# Altium schematic symbol library IC.SchLib: 9 symbols
Pins are listed as number, name and electrical type; pins without a type are passive.

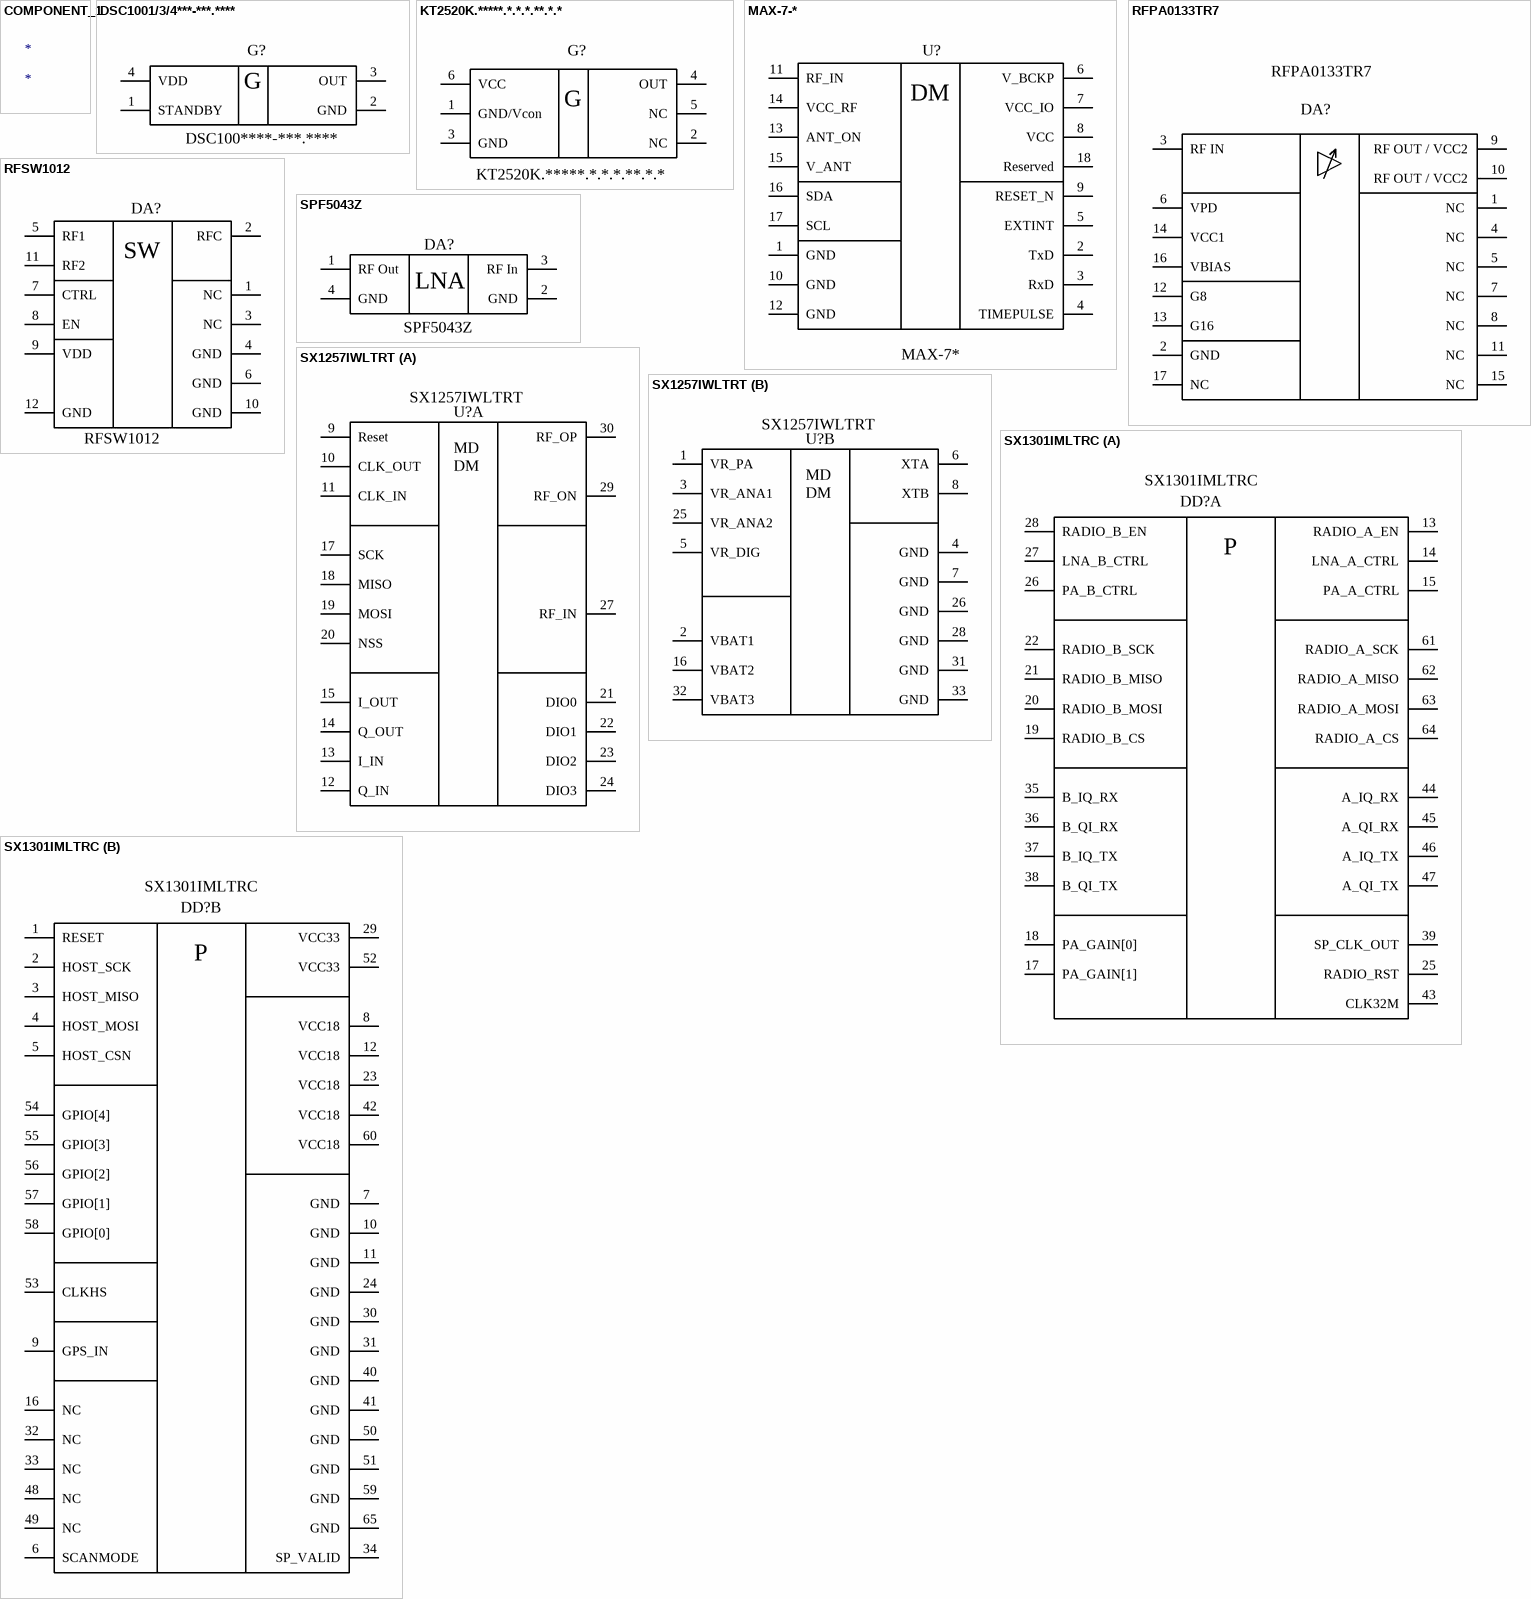
[diagram p0: symbols COMPONENT_1 to SX1301IMLTRC]

## COMPONENT_1
designator *

## DSC1001/3/4***-***.****
designator G?, comment DSC100****-***.****
1.8V-3.3V Low-Power Precision CMOS Oscillators 1-150 MHz Family; Manufacturer: Microchip; Designer: Лазба; 3D_Body: +; ComponentLink1Description: Техническое описание; ComponentLink1URL: Q:\Libs\Descriptions_PDF\DSC1001-3-4\DSC1001-3-4.pdf; Category: IC; Subcategory: Crystal Oscillator; Status: Check; Package: *; ComponentLink2Description: Техническое описание 2; ComponentLink2URL: Q:\Libs\Descriptions_PDF\DSC1001-3-4\DSC1001.pdf; PartNumber: DSC100****-***.****
footprint DSC1001CI2 (4-Leads, Body 2,50x3,20mm, Pitch 2,10mm, IPC Medium Density)
pins: 1 STANDBY, 2 GND, 3 OUT, 4 VDD
text: G

## KT2520K.*****.*.*.*.**.*.*
designator G?
Temperature Compensated Crystal Oscillators (TCXO, VCTCXO) Surface Mount Type; Manufacturer: Kyocera; Designer: Лазба; 3D_Body: +; Standard Freq, MHz: 19.2, 26, 32, 38.4, 48, 52; ComponentLink1Description: Техническое описание; ComponentLink1URL: Q:\Libs\Descriptions_PDF\kt2520_e.pdf; Category: IC; Subcategory: Crystal Oscillator; Status: Check; Package: Miniature SMD type (2.5×2.0×0.8mm); PartNumber: KT2520K.*****.*.*.*.**.*.*
footprint KT2520K (6-Pins, Body 2,50x2,50mmx0,80mm)
pins: 1 GND/Vcon, 2 NC, 3 GND, 4 OUT, 5 NC, 6 VCC
text: G

## MAX-7-*
designator U?, comment MAX-7*
GPS/GNSS Module; Manufacturer: u-blox; Designer: Лазба; 3D_Body: +; ComponentLink1Description: Техническое описание; ComponentLink1URL: Q:\Libs\Descriptions_PDF\MAX_7_DataSheet__UBX_13004068_-2010070.pdf; Category: IC; Subcategory: Transciever; Status: Check; PartNumber: MAX-7*
footprint MAX-7-Q0 (Chip Array, Flat, 18-Leads, Pitch 1,10mm,  Body 10,35x9,70mm,  IPC Medium Density)
pins: 1 GND "Ground", 2 TxD "Serial Port", 3 RxD "Serial Port", 4 TIMEPULSE "Time pulse (1PPS)", 5 EXTINT "External Interrupt Pin", 6 V_BCKP "Backup voltage supply", 7 VCC_IO "IO Supply Voltage", 8 VCC "Supply voltage", 9 RESET_N, 10 GND "Ground", 11 RF_IN "GNSS signal input", 12 GND "Ground", 13 ANT_ON "Antenna control", 14 VCC_RF "Output Voltage RF section", 15 V_ANT "Active Antenna Supply Voltage", 16 SDA "DDC Data", 17 SCL "DDC Clock", 18 Reserved
text: DM

## RFPA0133TR7
designator DA?
380 to 960 MHz, 3 to 5V programmable gain high efficiency power amplifier; Manufacturer: RFD, Qorvo; Designer: Лазба; 3D_Body: +; ComponentLink1Description: Техническое описание; ComponentLink1URL: Q:\Libs\Descriptions_PDF\RFPA0133_data_sheet.pdf; Category: IC; Subcategory: VGA; Status: Check; Package: 16-Lead QFN; PartNumber: RFPA0133TR7
footprint QFN50P300X300X90_HS-17N (QFN, 16-Leads, Body 3,00x3,00mm, Pitch 0,50mm, Thermal Pad 1,73x1,73mm, IPC Medium Density)
footprint RFPA0133TR7 (QFN, 16-Leads, Body 3,00x3,00mm, Pitch 0,50mm, Thermal Pad 1,70x1,70mm, IPC Medium Density)
pins: 1 NC , 2 GND, 3 RF IN, 4 NC , 5 NC , 6 VPD, 7 NC , 8 NC , 9 RF OUT / VCC2, 10 RF OUT / VCC2, 11 NC , 12 G8, 13 G16, 14 VCC1, 15 NC , 16 VBIAS, 17 NC 

## RFSW1012
designator DA?
Broadband SPDT Switch 0.005-6 GHz; Manufacturer: Qorvo; Designer: Лазба; 3D_Body: +; ComponentLink1Description: Техническое описание; ComponentLink1URL: Q:\Libs\Descriptions_PDF\RFSW1012 Data Sheet.pdf; Category: IC; Subcategory: Switch; Status: Check; Package: *; PartNumber: RFSW1012
footprint PQFN50P200X200X60_HS-13N (PQFN, 12-Leads, Body 2.00x2.00mm, Pitch 0.50mm, Thermal Pad 1.00x1.00mm, IPC Medium Density)
pins: 1 NC "No internal connection but recommend to ground on board for proper mounting", 2 RFC "Single ended Common Port", 3 NC "No internal connection but recommend to ground on board for proper mounting", 4 GND "Internally connected and must be grounded on board.", 5 RF1 "Single Ended RF port", 6 GND "Internally connected and must be grounded on board.", 7 CTRL "Switch logic control input", 8 EN "Shutdown logic control input", 9 VDD, 10 GND "Internally connected and must be grounded on board.", 11 RF2 "Single Ended RF port", 12 GND "Internally connected and must be grounded on board."
text: SW

## SPF5043Z
designator DA?
50 MHz to 4000 MHz Low-Noise Amplifier; Manufacturer: Qorvo; Designer: Лазба; 3D_Body: +; ComponentLink1Description: Техническое описание; ComponentLink1URL: Q:\Libs\Descriptions_PDF\SPF5043Z Data Sheet.pdf; Category: IC; Subcategory: LNA; Status: Check; Package: SOT343; PartNumber: SPF5043Z
footprint SOT130P210X105-4N
pins: 1 RF Out "RF output and Drain DC input. Internally matched to 50Ω. External DC blocking capacitor is", 2 GND, 3 RF In "RF input. This pin is internally DC coupled and RF matched to 50Ω. External DC blocking", 4 GND

## SX1257IWLTRT
designator U?
LoRa Core™ Low Power Digital I and Q RF Multi-PHY Mode Analog Front End 860-1000MHz; Manufacturer: Semtech; Designer: Лазба; 3D_Body: +; ComponentLink1Description: Техническое описание; ComponentLink1URL: Q:\Libs\Descriptions_PDF\DS_SX1257_V1.2.pdf; Category: IC; Subcategory: Transciever; Status: Check; Package: QFN32; PartNumber: SX1257IWLTRT
footprint SX1257IWLTRT (QFN127P600-8N Package for SX1257)
part A pins: 9 Reset, 10 CLK_OUT "36 MHz digital clock output", 11 CLK_IN "36 MHz digital clock input", 12 Q_IN "Digital baseband data input for I (inphase) channel DAC", 13 I_IN "Digital baseband data input for Q (quadrature) channel DAC", 14 Q_OUT "Digital baseband data output from I (inphase) channel ADC", 15 I_OUT "Digital baseband data output from Q (quadrature) channel ADC", 17 SCK "SPI clock", 18 MISO "Master In Slave Output SPI output", 19 MOSI "Master Out Slave Input SPI input", 20 NSS "SPI chip select", 21 DIO0 "Digital I/O, software configured", 22 DIO1 "Digital I/O, software configured", 23 DIO2 "Digital I/O, software configured", 24 DIO3 "Digital I/O, software configured", 27 RF_IN "RX LNA input", 29 RF_ON, 30 RF_OP
part B pins: 1 VR_PA "Regulated supply for TX amplifier", 2 VBAT1 "VBAT Supply voltage", 3 VR_ANA1 "Regulated supply for analog TX circuit", 4 GND "Ground", 5 VR_DIG "Regulated supply for digital circuit", 6 XTA "Crystal pad", 7 GND "Ground", 8 XTB "Crystal pad / input for external clock", 16 VBAT2 "VBAT supply voltage", 25 VR_ANA2 "Regulated supply for analog RX circuit", 26 GND "Ground", 28 GND "Ground", 31 GND, 32 VBAT3, 33 GND "Exposed Ground pad"
part A text: MD / DM
part B text: MD / DM

## SX1301IMLTRC
designator DD?
LoRa Core™ Digital Baseband Chip for outdoor LoRaWAN® network macro gateways; Manufacturer: Semtech; Designer: Лазба; 3D_Body: +; ComponentLink1Description: Техническое описание; ComponentLink1URL: Q:\Libs\Descriptions_PDF\DS_SX1301_V2_4_W.pdf; Category: IC; Subcategory: BPP; Status: Check; Package: QFN64; PartNumber: SX1301IMLTRC
footprint SX1301IMLTRC (QFN127P600-8N Package for SX1301IMLTRC)
part A pins: 13 RADIO_A_EN "Radio A global enable", 14 LNA_A_CTRL "LNA A enable", 15 PA_A_CTRL "PA A enable", 17 PA_GAIN[1] "PA gain control of both radio A/B", 18 PA_GAIN[0] "PA gain control of both radio A/B", 19 RADIO_B_CS "Radio B SPI interface", 20 RADIO_B_MOSI "Radio B SPI interface", 21 RADIO_B_MISO "Radio B SPI interface", 22 RADIO_B_SCK "Radio B SPI interface", 25 RADIO_RST "Radio A/B global reset", 26 PA_B_CTRL "PA B enable", 27 LNA_B_CTRL "LNA B enable", 28 RADIO_B_EN "Radio B global enable", 35 B_IQ_RX "Radio B 1 bit I/Q Rx samples", 36 B_QI_RX "Radio B 1 bit Q/I Rx samples", 37 B_IQ_TX "Radio B 1 bit I/Q Tx samples", 38 B_QI_TX "Radio B 1 bit Q/I Tx samples", 39 SP_CLK_OUT "Radio C clock out (32 MHz)", 43 CLK32M "32 MHz clock from radios crystal", 44 A_IQ_RX "Radio A 1 bit I/Q Rx samples", 45 A_QI_RX "Radio A 1 bit Q/I Rx samples", 46 A_IQ_TX "Radio A 1 bit I/Q Tx samples", 47 A_QI_TX "Radio A 1 bit Q/I Tx samples", 61 RADIO_A_SCK "Radio A SPI interface", 62 RADIO_A_MISO "Radio A SPI interface", 63 RADIO_A_MOSI "Radio A SPI interface", 64 RADIO_A_CS "Radio A SPI interface"
part B pins: 1 RESET "Global asynchronous reset", 2 HOST_SCK "HOST SPI clock (max 10 MHz clock)", 3 HOST_MISO "HOST SPI Interface", 4 HOST_MOSI "HOST SPI Interface", 5 HOST_CSN "HOST SPI Interface", 6 SCANMODE "Scanmode signal (tied to 0 in normal mode)", 7 GND "Ground", 8 VCC18 "Logic core supply", 9 GPS_IN "GPS 1 pps input", 10 GND "Ground", 11 GND "Ground", 12 VCC18 "Logic core supply", 16 NC "Not connected – tie to VSS", 23 VCC18 "Logic core supply", 24 GND "Ground", 29 VCC33 "Logic IO supply", 30 GND "Ground", 31 GND "Ground", 32 NC "Not connected – tie to VSS", 33 NC "Not connected – tie to VSS", 34 SP_VALID "Radio C sample valid", 40 GND "Ground", 41 GND "Ground", 42 VCC18 "Logic core supply", 48 NC "No connected – tie to VSS", 49 NC "No connected – tie to VSS", 50 GND "Ground", 51 GND "Ground", 52 VCC33 "Logic IO supply", 53 CLKHS "High speed digital clock", 54 GPIO[4] "General purpose GPIO[4]", 55 GPIO[3] "General purpose GPIO[3]", 56 GPIO[2] "General purpose GPIO[2]", 57 GPIO[1] "General purpose GPIO[1]", 58 GPIO[0] "General purpose GPIO[0]", 59 GND "Ground", 60 VCC18 "Logic core supply", 65 GND "Ground paddle"
part A text: P
part B text: P